# Altium footprint library PCB1.PcbLib: 74 footprints (part 3 of 5)
Each footprint in its own frame and in the unit in brackets; x right, y up, seen from the top. Pads: shape width x height; smd on the part's side, far side on the other; paste and mask are expansions set on the pad; w line width, h text height; cw(c..) or ccw(c..) is an arc to the next point about the centre after c.
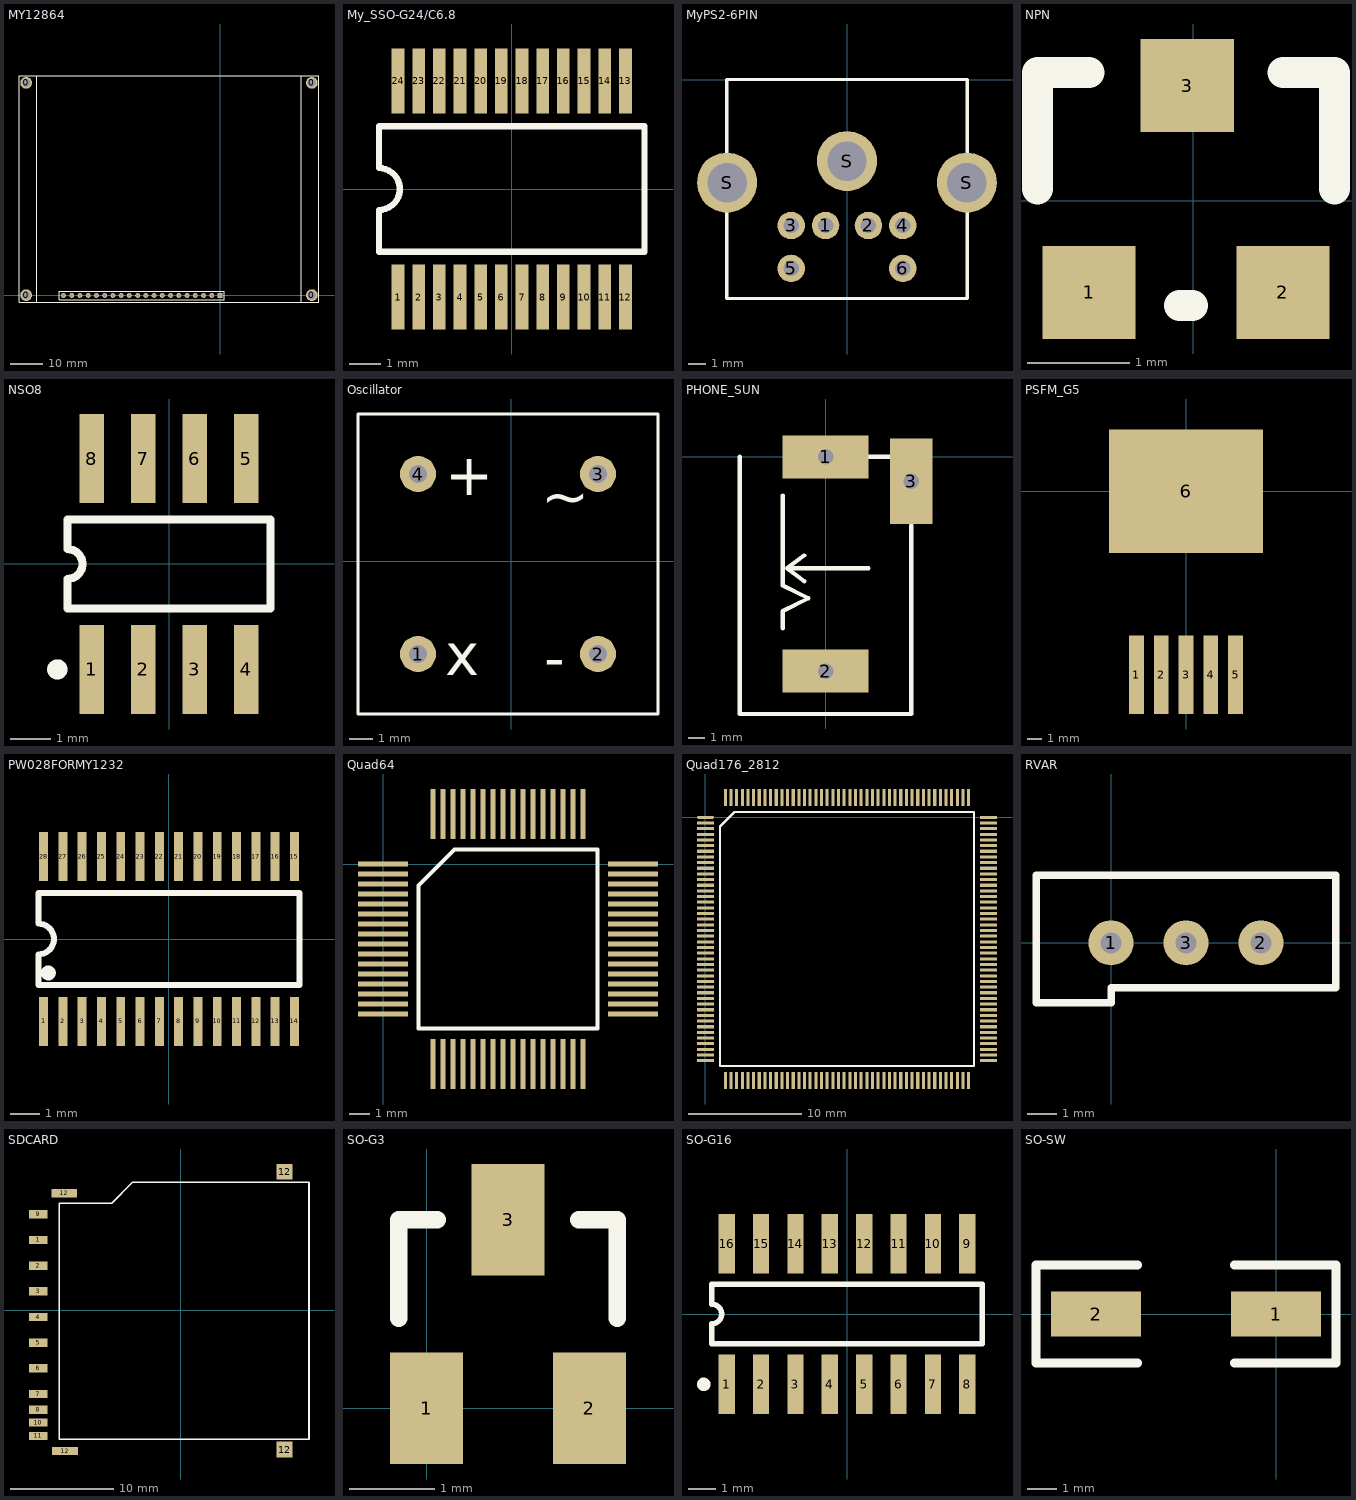
[diagram p2: the footprints below, top view; thin cyan lines are the x and y axes]

## MY12864 [mm]
pads (24):
  round 3.6 hole 2.6: 0(-59.76,0.1) 0(-59.76,65.52) 0(28.3,0.1) 0(28.3,65.52)
  rect 1.5x1.5 hole 0.9: 1(0,0)
  round 1.5 hole 0.9: 2(-2.54,0) 3(-5.08,0) 4(-7.62,0) 5(-10.16,0) 6(-12.7,0) 7(-15.24,0) 8(-17.78,0) 9(-20.32,0) 10(-22.86,0) 11(-25.4,0) 12(-27.94,0) 13(-30.48,0) 14(-33.02,0) 15(-35.56,0) 16(-38.1,0) 17(-40.64,0) 18(-43.18,0) 19(-45.72,0) 20(-48.26,0)
Top Overlay:
  lines w0.2: -49.53,-1.27 -49.53,1.27 -0.635,1.27 1.27,1.27 1.27,-1.27 -49.53,-1.27
  lines w0.254: -56.46,-2.1 -56.46,67.72 ; 25,-2.1 25,67.72 ; -61.96,-2.1 30.5,-2.1 30.5,67.72 -61.96,67.72 -61.96,-2.1

## My_SSO-G24/C6.8 [mm]
pads (24):
  rect 0.4x2.05 smd: 1(-3.575,-3.4) 2(-2.925,-3.4) 3(-2.275,-3.4) 4(-1.625,-3.4) 5(-0.975,-3.4) 6(-0.325,-3.4) 7(0.325,-3.4) 8(0.975,-3.4) 9(1.625,-3.4) 10(2.275,-3.4) 11(2.925,-3.4) 12(3.575,-3.4) 13(3.575,3.4) 14(2.925,3.4) 15(2.275,3.4) 16(1.625,3.4) 17(0.975,3.4) 18(0.325,3.4) 19(-0.325,3.4) 20(-0.975,3.4) 21(-1.625,3.4) 22(-2.275,3.4) 23(-2.925,3.4) 24(-3.575,3.4)
Top Overlay:
  lines w0.2: -4.175,-1.975 4.175,-1.975 4.175,1.975 -4.175,1.975 -4.175,0.658 cw(c-4.175,0) -4.175,-0.658 -4.175,-1.975

## MyPS2-6PIN [mm]
height 1.2
pads (9):
  round 1.6 hole 0.9: 1(-1.25,-8.5) 2(1.25,-8.5) 3(-3.25,-8.5) 4(3.25,-8.5) 5(-3.25,-11) 6(3.25,-11)
  round 3.5 hole 2.3: S(-6.985,-6) S(0,-4.75) S(6.985,-6)
Top Overlay:
  lines w0.2: -7,-12.75 -7,0 7,0 7,-12.75 -7,-12.75

## NPN [mil]
height 47.24
pads (3):
  rect 36x36 smd: 1(-40.31,-35.38) 2(34.69,-35.38) 3(-2.31,44.62)
Top Overlay:
  lines w12: -60.31,4.62 -60.31,49.62 -40.31,49.62 ; -5.32,-40.38 -0.32,-40.38 ; 34.69,49.62 54.69,49.62 54.69,4.62

## NSO8 [mm] "Small Outline; 8 Leads; Body Width 3.9 mm; Pitch 1.27 mm"
height 1.75
pads (8):
  rect 0.6x2.2 smd: 1(-1.905,-2.6) 2(-0.635,-2.6) 3(0.635,-2.6) 4(1.905,-2.6) 5(1.905,2.6) 6(0.635,2.6) 7(-0.635,2.6) 8(-1.905,2.6)
Top Overlay:
  circle w0.25: c-2.755,-2.6 r0.125
  lines w0.2: -2.5,-1.1 2.5,-1.1 2.5,1.1 -2.5,1.1 -2.5,0.367 cw(c-2.5,0) -2.5,-0.367 -2.5,-1.1

## Oscillator [mil] "Oscillator"
pads (4):
  round 60 hole 30: 1(-155,-155) 2(145,-155) 3(145,145) 4(-155,145)
Top Overlay:
  lines w5: -255,-255 -255,245 245,245 245,-255 -255,-255
  text "~" at 50,75 h70
  text "-" at 55,-195 h70
  text "+" at -110,110 h70
  text "x" at -110,-190 h70

## PHONE_SUN [mil]
pads (3):
  rect 200x100 hole 36: 1(0,0) 2(0,-500)
  rect 100x200 hole 36: 3(200,-57)
Top Overlay:
  lines w10: -200,0 -200,-600 200,-600 200,-160 ; -100,-400 -100,-360 -40,-330 -100,-300 -100,-90 ; -80,-260 -90,-260 ; -50,-290 -90,-260 ; -50,-230 -90,-260 ; 100,-260 -90,-260 ; 100,0 150,0

## PSFM_G5 [mm]
pads (6):
  rect 1x5.4 all layers, no hole: 1(-3.4,-12.6) 2(-1.7,-12.6) 3(0,-12.6) 4(1.7,-12.6) 5(3.4,-12.6)
  rect 10.6x8.5 all layers, no hole: 6(0,0)

## PW028FORMY1232 [mm]
pads (28):
  rect 0.3x1.65 smd: 1(-4.225,-2.775) 2(-3.575,-2.775) 3(-2.925,-2.775) 4(-2.275,-2.775) 5(-1.625,-2.775) 6(-0.975,-2.775) 7(-0.325,-2.775) 8(0.325,-2.775) 9(0.975,-2.775) 10(1.625,-2.775) 11(2.275,-2.775) 12(2.925,-2.775) 13(3.575,-2.775) 14(4.225,-2.775) 15(4.225,2.775) 16(3.575,2.775) 17(2.925,2.775) 18(2.275,2.775) 19(1.625,2.775) 20(0.975,2.775) 21(0.325,2.775) 22(-0.325,2.775) 23(-0.975,2.775) 24(-1.625,2.775) 25(-2.275,2.775) 26(-2.925,2.775) 27(-3.575,2.775) 28(-4.225,2.775)
Top Overlay:
  circle w0.25: c-4.062,-1.143 r0.125
  lines w0.2: -4.392,-1.55 4.392,-1.55 4.392,1.55 -4.392,1.55 -4.392,0.517 cw(c-4.392,0) -4.392,-0.517 -4.392,-1.55

## Quad64 [mm]
pads (64):
  rect 2.5x0.25 smd: 1(0,0) 2(0,-0.5) 3(0,-1) 4(0,-1.5) 5(0,-2) 6(0,-2.5) 7(0,-3) 8(0,-3.5) 9(0,-4) 10(0,-4.5) 11(0,-5) 12(0,-5.5) 13(0,-6) 14(0,-6.5) 15(0,-7) 16(0,-7.5) 33(12.5,-7.5) 34(12.5,-7) 35(12.5,-6.5) 36(12.5,-6) 37(12.5,-5.5) 38(12.5,-5) 39(12.5,-4.5) 40(12.5,-4) 41(12.5,-3.5) 42(12.5,-3) 43(12.5,-2.5) 44(12.5,-2) 45(12.5,-1.5) 46(12.5,-1) 47(12.5,-0.5) 48(12.5,0)
  rect 0.25x2.5 smd: 17(2.5,-10) 18(3,-10) 19(3.5,-10) 20(4,-10) 21(4.5,-10) 22(5,-10) 23(5.5,-10) 24(6,-10) 25(6.5,-10) 26(7,-10) 27(7.5,-10) 28(8,-10) 29(8.5,-10) 30(9,-10) 31(9.5,-10) 32(10,-10) 49(10,2.5) 50(9.5,2.5) 51(9,2.5) 52(8.5,2.5) 53(8,2.5) 54(7.5,2.5) 55(7,2.5) 56(6.5,2.5) 57(6,2.5) 58(5.5,2.5) 59(5,2.5) 60(4.5,2.5) 61(4,2.5) 62(3.5,2.5) 63(3,2.5) 64(2.5,2.5)
Top Overlay:
  lines w0.2: 1.785,-8.215 10.715,-8.215 10.715,0.715 3.57,0.715 1.785,-1.07 1.785,-8.215

## Quad176_2812 [mm]
pads (176):
  oval 1.5x0.27 smd: 1(0,0)
  rect 1.5x0.27 smd: 2(0,-0.5) 3(0,-1) 4(0,-1.5) 5(0,-2) 6(0,-2.5) 7(0,-3) 8(0,-3.5) 9(0,-4) 10(0,-4.5) 11(0,-5) 12(0,-5.5) 13(0,-6) 14(0,-6.5) 15(0,-7) 16(0,-7.5) 17(0,-8) 18(0,-8.5) 19(0,-9) 20(0,-9.5) 21(0,-10) 22(0,-10.5) 23(0,-11) 24(0,-11.5) 25(0,-12) 26(0,-12.5) 27(0,-13) 28(0,-13.5) 29(0,-14) 30(0,-14.5) 31(0,-15) 32(0,-15.5) 33(0,-16) 34(0,-16.5) 35(0,-17) 36(0,-17.5) 37(0,-18) 38(0,-18.5) 39(0,-19) 40(0,-19.5) 41(0,-20) 42(0,-20.5) 43(0,-21) 44(0,-21.5) 89(25,-21.5) 90(25,-21) 91(25,-20.5) 92(25,-20) 93(25,-19.5) 94(25,-19) 95(25,-18.5) 96(25,-18) 97(25,-17.5) 98(25,-17) 99(25,-16.5) 100(25,-16) 101(25,-15.5) 102(25,-15) 103(25,-14.5) 104(25,-14) 105(25,-13.5) 106(25,-13) 107(25,-12.5) 108(25,-12) 109(25,-11.5) 110(25,-11) 111(25,-10.5) 112(25,-10) 113(25,-9.5) 114(25,-9) 115(25,-8.5) 116(25,-8) 117(25,-7.5) 118(25,-7) 119(25,-6.5) 120(25,-6) 121(25,-5.5) 122(25,-5) 123(25,-4.5) 124(25,-4) 125(25,-3.5) 126(25,-3) 127(25,-2.5) 128(25,-2) 129(25,-1.5) 130(25,-1) 131(25,-0.5) 132(25,0)
  rect 0.27x1.5 smd: 45(1.75,-23.25) 46(2.25,-23.25) 47(2.75,-23.25) 48(3.25,-23.25) 49(3.75,-23.25) 50(4.25,-23.25) 51(4.75,-23.25) 52(5.25,-23.25) 53(5.75,-23.25) 54(6.25,-23.25) 55(6.75,-23.25) 56(7.25,-23.25) 57(7.75,-23.25) 58(8.25,-23.25) 59(8.75,-23.25) 60(9.25,-23.25) 61(9.75,-23.25) 62(10.25,-23.25) 63(10.75,-23.25) 64(11.25,-23.25) 65(11.75,-23.25) 66(12.25,-23.25) 67(12.75,-23.25) 68(13.25,-23.25) 69(13.75,-23.25) 70(14.25,-23.25) 71(14.75,-23.25) 72(15.25,-23.25) 73(15.75,-23.25) 74(16.25,-23.25) 75(16.75,-23.25) 76(17.25,-23.25) 77(17.75,-23.25) 78(18.25,-23.25) 79(18.75,-23.25) 80(19.25,-23.25) 81(19.75,-23.25) 82(20.25,-23.25) 83(20.75,-23.25) 84(21.25,-23.25) 85(21.75,-23.25) 86(22.25,-23.25) 87(22.75,-23.25) 88(23.25,-23.25) 133(23.25,1.75) 134(22.75,1.75) 135(22.25,1.75) 136(21.75,1.75) 137(21.25,1.75) 138(20.75,1.75) 139(20.25,1.75) 140(19.75,1.75) 141(19.25,1.75) 142(18.75,1.75) 143(18.25,1.75) 144(17.75,1.75) 145(17.25,1.75) 146(16.75,1.75) 147(16.25,1.75) 148(15.75,1.75) 149(15.25,1.75) 150(14.75,1.75) 151(14.25,1.75) 152(13.75,1.75) 153(13.25,1.75) 154(12.75,1.75) 155(12.25,1.75) 156(11.75,1.75) 157(11.25,1.75) 158(10.75,1.75) 159(10.25,1.75) 160(9.75,1.75) 161(9.25,1.75) 162(8.75,1.75) 163(8.25,1.75) 164(7.75,1.75) 165(7.25,1.75) 166(6.75,1.75) 167(6.25,1.75) 168(5.75,1.75) 169(5.25,1.75) 170(4.75,1.75) 171(4.25,1.75) 172(3.75,1.75) 173(3.25,1.75) 174(2.75,1.75) 175(2.25,1.75) 176(1.75,1.75)
Top Overlay:
  lines w0.2: 1.285,-21.965 23.715,-21.965 23.715,0.465 2.57,0.465 1.285,-0.82 1.285,-21.965

## RVAR [mil]
height 47.24
pads (3):
  round 60 hole 28: 1(0,0) 2(200,0) 3(100,0)
Top Overlay:
  lines w10: -100,-80 0,-80 0,-60 300,-60 300,90 -100,90 -100,-80

## SDCARD [mm]
pads (15):
  rect 1.8x0.8 smd: 1(-13.8,6.804) 2(-13.8,4.315) 3(-13.8,1.826) 4(-13.8,-0.664) 5(-13.8,-3.153) 6(-13.8,-5.642) 7(-13.8,-8.131) 8(-13.8,-9.655) 9(-13.8,9.293) 10(-13.8,-10.9) 11(-13.8,-12.195)
  rect 2.5x0.8 smd: 12(-11.278,11.328) 12(-11.201,-13.665)
  rect 1.524x1.524 smd: 12(10.076,-13.516) 12(10.076,13.408)
Top Overlay:
  lines w0.152: -8.212,10.36 -11.768,10.36 ; 6.012,12.392 12.446,12.392 12.446,-12.5 8.552,-12.5 ; 9.06,-12.5 -11.768,-12.5 -11.768,10.36 ; 9.06,12.392 -4.656,12.392 -6.688,10.36 -11.768,10.36

## SO-G3 [mm]
height 2.13
pads (3):
  rect 0.85x1.3 smd: 1(0,0) 2(1.9,0) 3(0.95,2.2)
Top Overlay:
  lines w0.2: -0.325,1.05 -0.325,2.2 0.125,2.2 ; 1.775,2.2 2.225,2.2 2.225,1.05

## SO-G16 [mm]
height 1.2
pads (16):
  rect 0.6x2.2 smd: 1(-4.445,-2.6) 2(-3.175,-2.6) 3(-1.905,-2.6) 4(-0.635,-2.6) 5(0.635,-2.6) 6(1.905,-2.6) 7(3.175,-2.6) 8(4.445,-2.6) 9(4.445,2.6) 10(3.175,2.6) 11(1.905,2.6) 12(0.635,2.6) 13(-0.635,2.6) 14(-1.905,2.6) 15(-3.175,2.6) 16(-4.445,2.6)
Top Overlay:
  circle w0.25: c-5.295,-2.6 r0.125
  lines w0.2: -5,-1.1 -5,-0.367 ccw(c-5,0) -5,0.367 -5,1.1 5,1.1 5,-1.1 -5,-1.1

## SO-SW [mil]
height 47.24
pads (2):
  rect 120x60 smd: 1(0,0) 2(-240,0)
Top Overlay:
  lines w12: -185,-65 -320,-65 -320,65 -185,65 ; -55,-65 80,-65 80,65 -55,65